# Altium footprint library LM_ETD29_16_10_14PIN.PcbLib: 1 footprints
Each footprint in its own frame and in the unit in brackets; x right, y up, seen from the top. Pads: shape width x height; smd on the part's side, far side on the other; paste and mask are expansions set on the pad; w line width, h text height; cw(c..) or ccw(c..) is an arc to the next point about the centre after c.
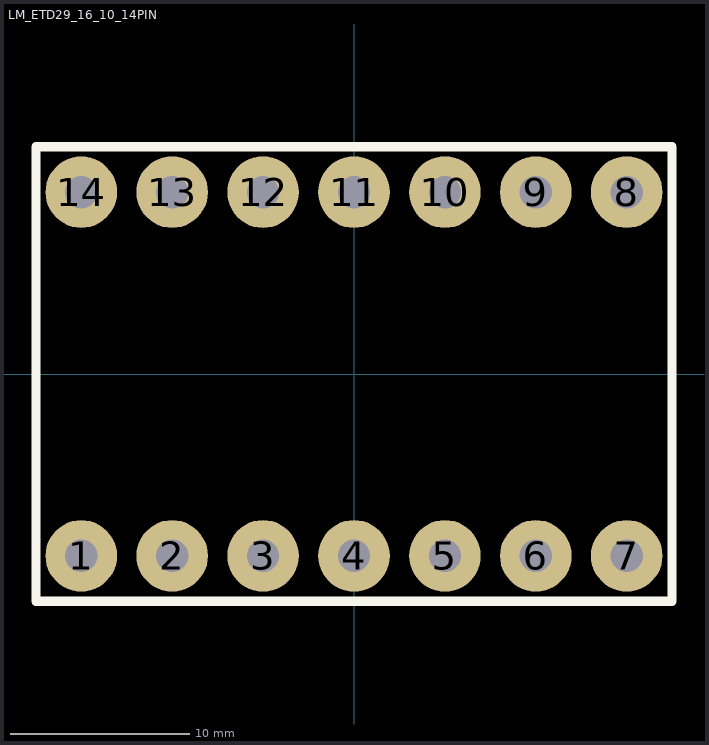
[diagram p0: the footprint, top view; thin cyan lines are the x and y axes]

## LM_ETD29_16_10_14PIN [mm]
pads (14):
  round 4 hole 1.8: 1(-15.24,-10.16) 2(-10.16,-10.16) 3(-5.08,-10.16) 4(0,-10.16) 5(5.08,-10.16) 6(10.16,-10.16) 7(15.24,-10.16) 8(15.24,10.16) 9(10.16,10.16) 10(5.08,10.16) 11(0,10.16) 12(-5.08,10.16) 13(-10.16,10.16) 14(-15.24,10.16)
Top Overlay:
  lines w0.508: -17.78,-12.7 17.78,-12.7 17.78,12.7 -17.78,12.7 -17.78,-12.7
3D body "ETD29-K-V-14P.STEP": height 36.4, standoff -6.8, extent -17.5,-11.773 17.5,12.027